# Altium footprint library NEC1-Ethernet.PcbLib: 3 footprints
Each footprint in its own frame and in the unit in brackets; x right, y up, seen from the top. Pads: shape width x height; smd on the part's side, far side on the other; paste and mask are expansions set on the pad; w line width, h text height; cw(c..) or ccw(c..) is an arc to the next point about the centre after c.
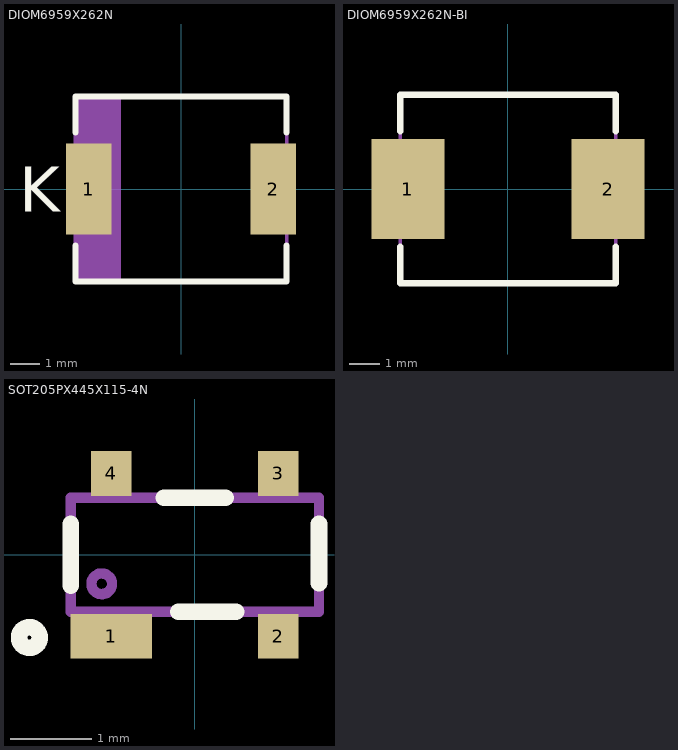
[diagram p0: the footprints below, top view; thin cyan lines are the x and y axes]

## DIOM6959X262N [mm]
height 2.62
pads (2):
  rect 1.53x3.07 smd mask+0.102: 1(-3.11,0) 2(3.11,0)
Top Overlay:
  lines w0.203: -3.555,-1.905 -3.555,-3.11 3.555,-3.11 3.555,-1.905 ; -3.555,1.905 -3.555,3.11 3.555,3.11 3.555,1.905
  text "K" at -5.461,-0.762 h1.52
Mechanical 1:
  text "'.Designator'" at 0,0 h1.52
Mechanical 15:
  rectangle: -3.555,-3.11 -2.032,3.11
  lines w0.127: -3.555,-3.11 0,-3.11 3.555,-3.11 3.555,0 3.555,3.11 0,3.11 -3.555,3.11 -3.555,0 -3.555,-3.11
3D body: height 2.62, standoff 0, extent -3.555,-3.11 3.555,3.11

## DIOM6959X262N-BI [mm]
height 2.62
pads (2):
  rect 2.4x3.3 smd mask+0.102: 1(-3.3,0) 2(3.3,0)
Top Overlay:
  lines w0.203: -3.555,-1.905 -3.555,-3.11 3.555,-3.11 3.555,-1.905 ; -3.555,1.905 -3.555,3.11 3.555,3.11 3.555,1.905
Mechanical 1:
  text "'.Designator'" at 0,0 h1.52
Mechanical 15:
  lines w0.127: -3.555,-3.11 0,-3.11 3.555,-3.11 3.555,0 3.555,3.11 0,3.11 -3.555,3.11 -3.555,0 -3.555,-3.11
3D body: height 2.62, standoff 0, extent -3.555,-3.11 3.555,3.11

## SOT205PX445X115-4N [mm]
height 1.15
pads (4):
  rect 1x0.55 smd mask+0.102: 1(-1.025,-1)
  rect 0.5x0.55 smd mask+0.102: 2(1.025,-1) 3(1.025,1) 4(-1.025,1)
Top Overlay:
  circle w0.203: c-2.032,-1.016 r0.127
  lines w0.203: -1.525,-0.381 -1.525,0.381 ; -0.381,0.7 0.381,0.7 ; -0.203,-0.7 0.508,-0.7 ; 1.525,-0.35 1.525,0.381
Mechanical 1:
  text "'.Designator'" at 0,0 h1.52
Mechanical 15:
  circle w0.127: c-1.143,-0.356 r0.127
  lines w0.127: -1.525,-0.7 0,-0.7 1.525,-0.7 1.525,0 1.525,0.7 0,0.7 -1.525,0.7 -1.525,0 -1.525,-0.7
3D body: height 1.15, standoff 0, extent -1.525,-0.7 1.525,0.7